# Altium schematic symbol library Condensator12pF.SchLib: 1 symbol
Pins are listed as number, name and electrical type; pins without a type are passive.

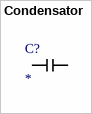
[diagram p0: symbol Condensator]

## Condensator
designator C?
footprint CAPC1210X14M (Chip Capacitor, 2-Leads, Body 2.10x1.25mm, IPC Low Density)
pins: 1 (power), 2 (power)